# Altium footprint library Molex_SD-47571.PcbLib: 1 footprints
Each footprint in its own frame and in the unit in brackets; x right, y up, seen from the top. Pads: shape width x height; smd on the part's side, far side on the other; paste and mask are expansions set on the pad; w line width, h text height; cw(c..) or ccw(c..) is an arc to the next point about the centre after c.
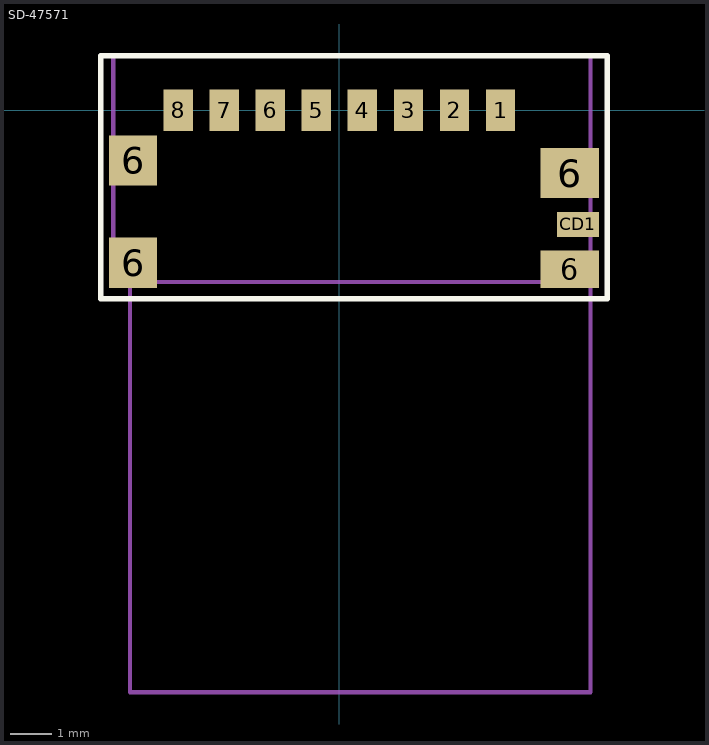
[diagram p0: the footprint, top view; thin cyan lines are the x and y axes]

## SD-47571 [mm]
pads (13):
  rect 0.7x1 smd: 1(3.85,0) 2(2.75,0) 3(1.65,0) 4(0.55,0) 5(-0.55,0) 6(-1.65,0) 7(-2.75,0) 8(-3.85,0)
  rect 1.15x1.2 smd: 6(-4.925,-3.64) 6(-4.925,-1.2)
  rect 1.4x0.9 smd: 6(5.5,-3.8)
  rect 1.4x1.2 smd: 6(5.5,-1.5)
  rect 1x0.6 smd: CD1(5.7,-2.725)
Top Overlay:
  lines w0.127: -5.7,-4.5 -5.7,1.3 6.4,1.3 6.4,-4.5 -5.7,-4.5
Mechanical 13:
  lines w0.1: -5,-4.1 -5,-13.9 6,-13.9 6,-4.1 ; 6,-4.1 6,1.3 -5.4,1.3 -5.4,-4.1 6,-4.1
3D body: height 2.31, standoff 0.02, extent -5.38,-4.15 6.02,1.3